# Altium footprint library Y电容.PcbLib: 8 footprints
Each footprint in its own frame and in the unit in brackets; x right, y up, seen from the top. Pads: shape width x height; smd on the part's side, far side on the other; paste and mask are expansions set on the pad; w line width, h text height; cw(c..) or ccw(c..) is an arc to the next point about the centre after c.
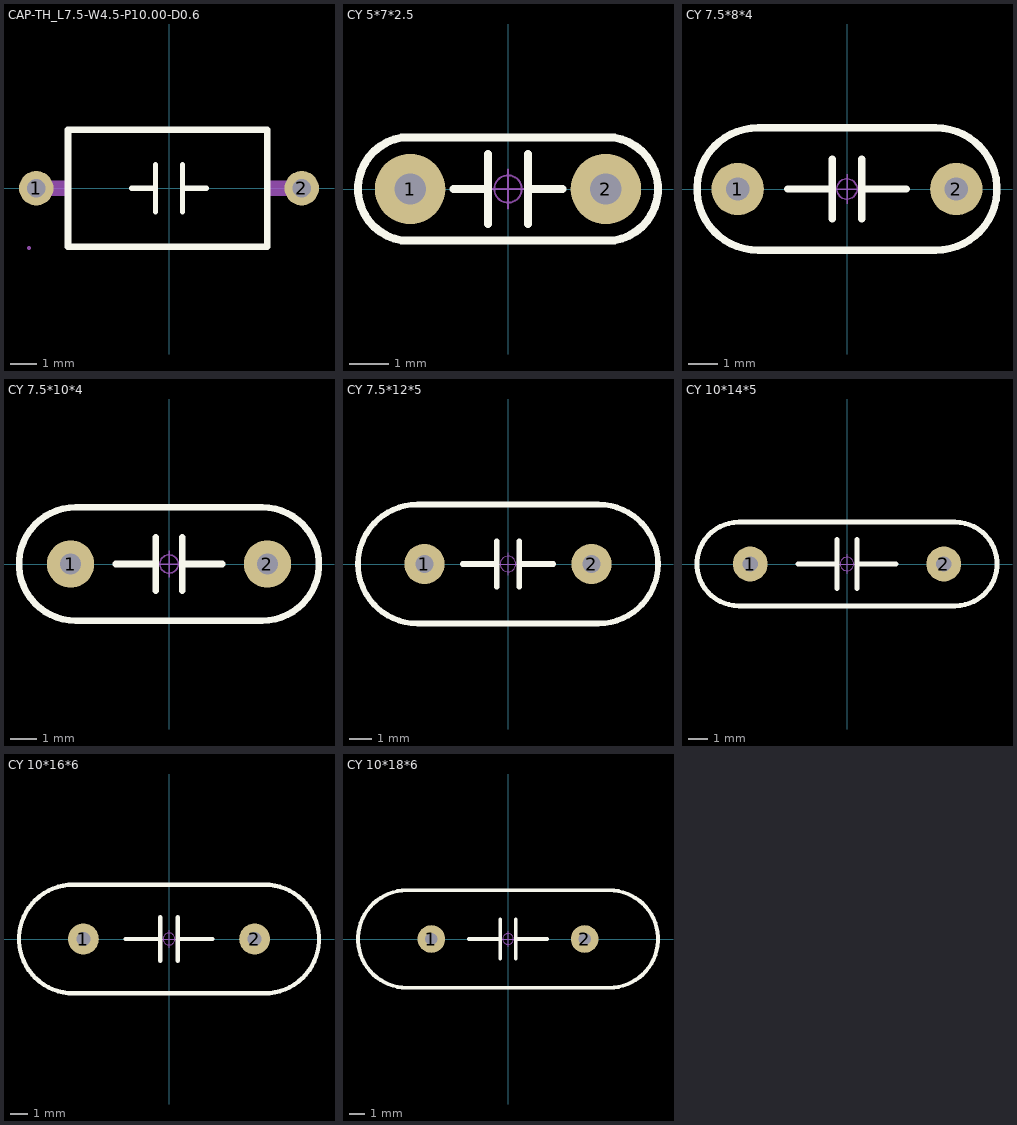
[diagram p0: the footprints below, top view; thin cyan lines are the x and y axes]

## CAP-TH_L7.5-W4.5-P10.00-D0.6 [mm]
pads (2):
  round 1.3 hole 0.7: 1(-5,0) 2(5,0)
Top Overlay:
  lines w0.203: -1.397,0 -0.508,0 ; -0.508,-0.889 -0.508,0.889 ; 0.508,-0.889 0.508,0.889 ; 0.508,0 1.397,0
  lines w0.254: -3.8,-2.2 3.7,-2.2 3.7,2.2 -3.8,2.2 -3.8,-2.2
Mechanical 15:
  region: -5.215,-2.25 -5.215,-2.225 -5.25,-2.191 -5.3,-2.191 -5.335,-2.225 -5.335,-2.25 -5.335,-2.275 -5.3,-2.309 -5.25,-2.309 -5.215,-2.275
  region: -4.725,0 -4.726,0.054 -4.769,0.153 -4.846,0.229 -4.946,0.27 -5.054,0.27 -5.154,0.229 -5.231,0.153 -5.274,0.054 -5.275,0 -5.274,-0.054 -5.231,-0.154 -5.154,-0.229 -5.054,-0.27 -4.946,-0.27 -4.846,-0.229 -4.769,-0.154 -4.726,-0.054
  region: 5.275,0 5.274,0.054 5.231,0.153 5.154,0.229 5.054,0.27 4.946,0.27 4.846,0.229 4.769,0.153 4.726,0.054 4.725,0 4.726,-0.054 4.769,-0.154 4.846,-0.229 4.946,-0.27 5.054,-0.27 5.154,-0.229 5.231,-0.154 5.274,-0.054
  region: -5,0.275 -5,-0.275 -3.7,-0.275 -3.7,0.275
  region: 5,-0.275 5,0.275 3.7,0.275 3.7,-0.275
  lines w0.051: -3.75,-2.25 -3.75,2.25 3.75,2.25 3.75,-2.25 -3.75,-2.25
3D body "C2.step": height 9.82, standoff -3.5, extent -5.483,-2.25 5.483,2.25

## CY 5*7*2.5 [mm] "脚距5mm，直径7mm，厚2.5mm"
pads (2):
  round 1.8 hole 0.8: 1(-2.5,0) 2(2.5,0)
Top Overlay:
  lines w0.203: -1.397,0 -0.508,0 ; -0.508,-0.889 -0.508,0.889 ; 0.508,-0.889 0.508,0.889 ; 0.508,0 1.397,0 ; -2.726,1.313 ccw(c-2.5,0) -2.726,-1.313 2.726,-1.313 2.726,-1.313 ccw(c2.5,0) 2.726,1.313 -2.726,1.313 -2.726,1.313
Mechanical 15:
  circle w0.05: c0,0 r0.35
  lines w0.05: -0.5,0 0.5,0 ; 0,-0.5 0,0.5
3D body "CY 5X7X2.5.STEP": height 7, standoff -3.5, extent -3.5,-1.25 3.5,1.25

## CY 7.5*8*4 [mm] "脚距7.5mm，直径8mm，厚4mm"
pads (2):
  round 1.8 hole 0.8: 1(-3.75,0) 2(3.75,0)
Top Overlay:
  lines w0.254: -2.032,0 -0.508,0 ; -0.508,-1.016 -0.508,1.016 ; 0.508,-1.016 0.508,1.016 ; 0.508,0 2.032,0 ; -3.048,-2.1 cw(c-3.048,0) -3.048,2.1 3.048,2.1 cw(c3.048,0) 3.048,-2.1 -3.048,-2.1
Mechanical 15:
  circle w0.05: c0,0 r0.35
  lines w0.05: -0.5,0 0.5,0 ; 0,-0.5 0,0.5
3D body "CY 7.5X8X4.STEP": height 8.2, standoff -3.3, extent -4.042,-2 4.042,2

## CY 7.5*10*4 [mm] "脚距7.5mm，直径10mm，厚4mm"
pads (2):
  round 1.8 hole 0.8: 1(-3.75,0) 2(3.75,0)
Top Overlay:
  lines w0.254: -2.032,0 -0.508,0 ; -0.508,-1.016 -0.508,1.016 ; 0.508,-1.016 0.508,1.016 ; 0.508,0 2.032,0 ; -3.556,-2.159 cw(c-3.556,0) -3.556,2.159 3.556,2.159 cw(c3.556,0) 3.556,-2.159 -3.556,-2.159
Mechanical 15:
  circle w0.05: c0,0 r0.35
  lines w0.05: -0.5,0 0.5,0 ; 0,-0.5 0,0.5
3D body "CY 7.5X10X4.STEP": height 10.2, standoff -3.3, extent -4.88,-2 5.12,2

## CY 7.5*12*5 [mm] "脚距7.5mm，直径12mm，厚5mm"
pads (2):
  round 1.8 hole 0.8: 1(-3.75,0) 2(3.75,0)
Top Overlay:
  lines w0.254: -2.032,0 -0.508,0 ; -0.508,-1.016 -0.508,1.016 ; 0.508,-1.016 0.508,1.016 ; 0.508,0 2.032,0 ; -4.064,-2.667 cw(c-4.064,0) -4.064,2.667 4.064,2.667 cw(c4.064,0) 4.064,-2.667 -4.064,-2.667
Mechanical 15:
  circle w0.05: c0,0 r0.35
  lines w0.05: -0.5,0 0.5,0 ; 0,-0.5 0,0.5
3D body "CY 7.5X12X5.STEP": height 12.2, standoff -3.3, extent -6,-2.5 6,2.5

## CY 10*14*5 [mm] "脚距10mm，直径14mm，厚5mm"
pads (2):
  round 1.8 hole 0.8: 1(-5,0) 2(5,0)
Top Overlay:
  lines w0.254: -2.54,0 -0.604,0 ; -0.508,-1.27 -0.508,1.27 ; 0.508,-1.27 0.508,1.27 ; 0.508,0 2.54,0 ; -5.588,-2.159 cw(c-5.588,0) -5.588,2.159 5.588,2.159 cw(c5.588,0) 5.588,-2.159 -5.588,-2.159
Mechanical 15:
  circle w0.05: c0,0 r0.35
  lines w0.05: -0.5,0 0.5,0 ; 0,-0.5 0,0.5
3D body "CY 10X14X5.STEP": height 14.2, standoff -3.3, extent -7,-2 7,2

## CY 10*16*6 [mm] "脚距10mm，直径16mm，厚6mm"
pads (2):
  round 1.8 hole 0.8: 1(-5,0) 2(5,0)
Top Overlay:
  lines w0.254: -2.54,0 -0.604,0 ; -0.508,-1.27 -0.508,1.27 ; 0.508,-1.27 0.508,1.27 ; 0.508,0 2.54,0 ; -5.588,-3.175 cw(c-5.588,0) -5.588,3.175 5.588,3.175 cw(c5.588,0) 5.588,-3.175 -5.588,-3.175
Mechanical 15:
  circle w0.05: c0,0 r0.35
  lines w0.05: -0.5,0 0.5,0 ; 0,-0.5 0,0.5
3D body "CY 10X16X6.STEP": height 16.2, standoff -3.3, extent -8,-3 8,3

## CY 10*18*6 [mm] "脚距10mm，直径18mm，厚6mm"
pads (2):
  round 1.8 hole 0.8: 1(-5,0) 2(5,0)
Top Overlay:
  lines w0.254: -2.54,0 -0.604,0 ; -0.508,-1.27 -0.508,1.27 ; 0.508,-1.27 0.508,1.27 ; 0.508,0 2.54,0 ; -6.604,-3.175 cw(c-6.604,0) -6.604,3.175 6.604,3.175 cw(c6.604,0) 6.604,-3.175 -6.604,-3.175
Mechanical 15:
  circle w0.05: c0,0 r0.35
  lines w0.05: -0.5,0 0.5,0 ; 0,-0.5 0,0.5
3D body "CY 10X18X6.STEP": height 18.2, standoff -3.3, extent -9,-3 9,3